# Altium footprint library linear.PCBLIB: 119 footprints (part 3 of 8)
Each footprint in its own frame and in the unit in brackets; x right, y up, seen from the top. Pads: shape width x height; smd on the part's side, far side on the other; paste and mask are expansions set on the pad; w line width, h text height; cw(c..) or ccw(c..) is an arc to the next point about the centre after c.
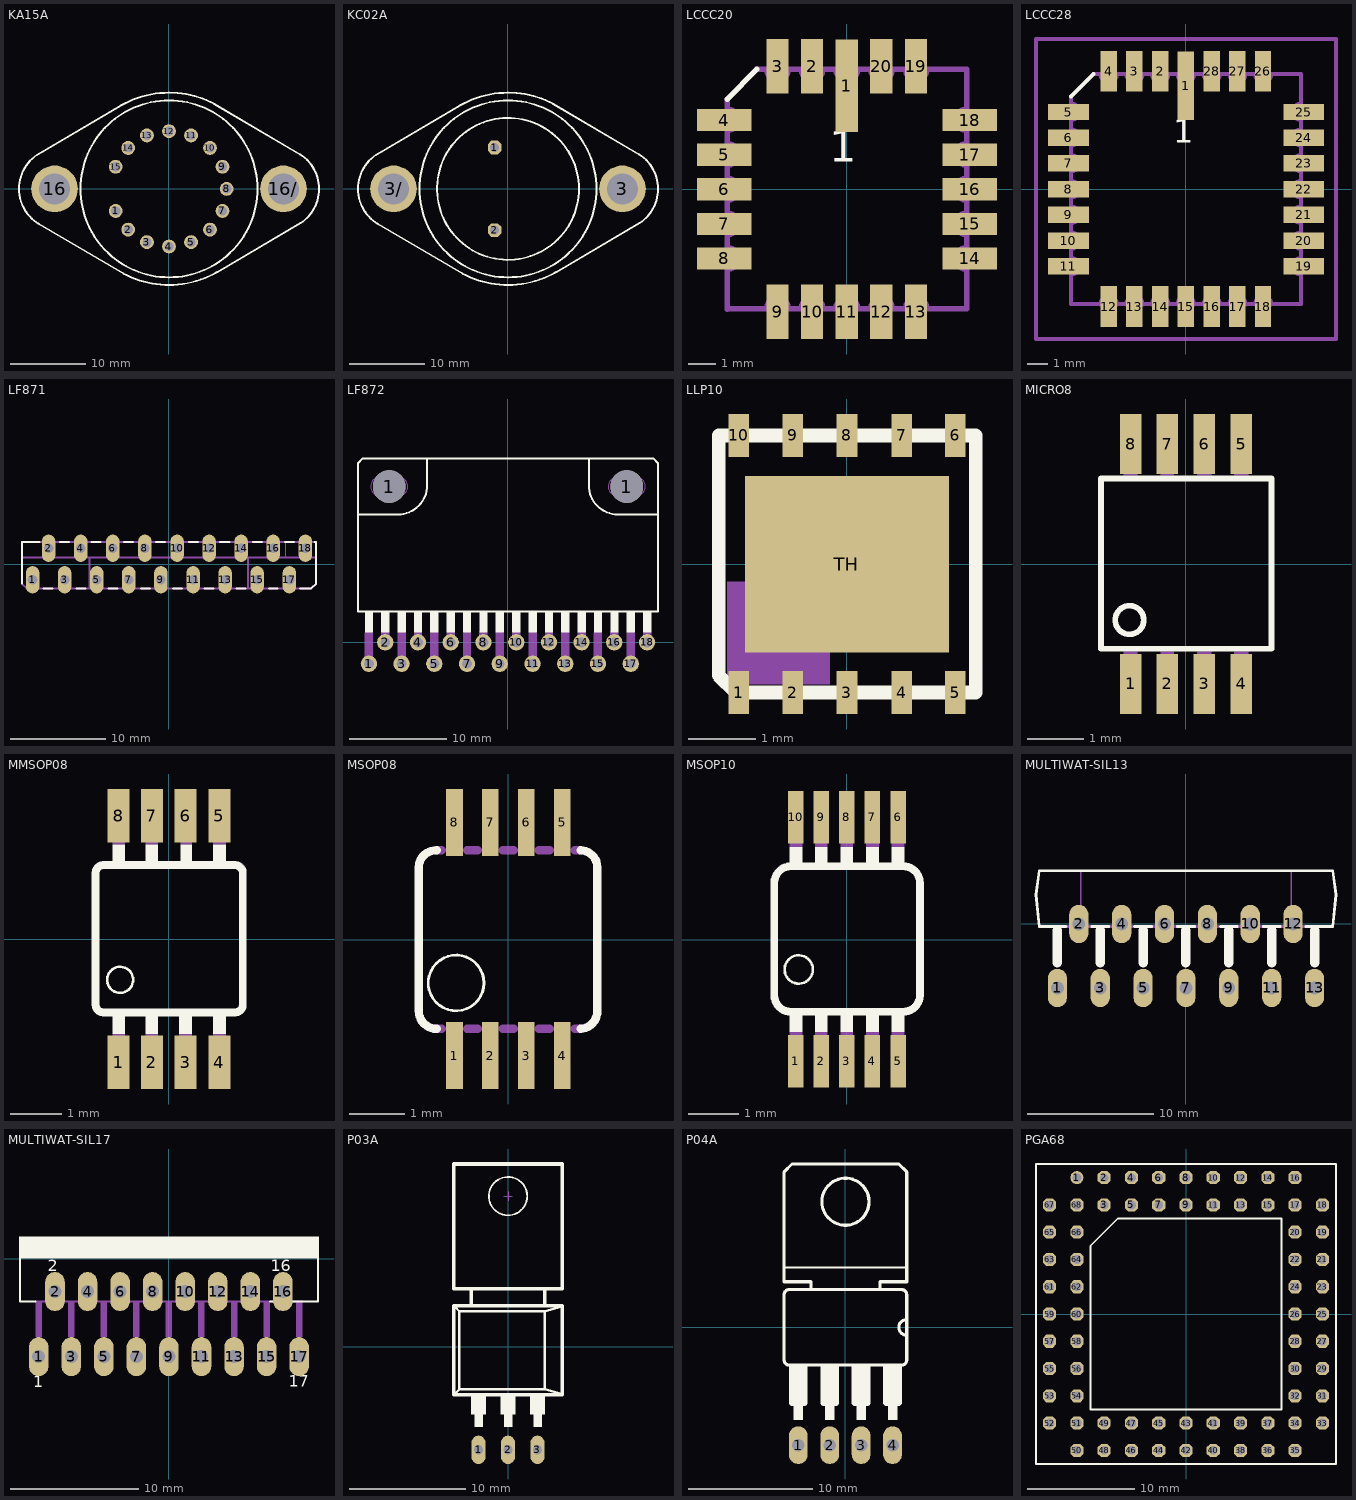
[diagram p2: the footprints below, top view; thin cyan lines are the x and y axes]

## KA15A [mil]
pads (17):
  round 72 hole 48: 1(-277.17,-114.8) 2(-212.13,-212.13) 3(-114.8,-277.17) 4(0,-300) 5(115,-277.17) 6(213,-212.13) 7(278,-114.8) 8(300,0) 9(278,115) 10(213,213) 11(115,278) 12(0,300) 13(-114.8,278) 14(-212.13,213) 15(-277.17,115)
  round 243 hole 162: 16(-595,0) 16/(595,0)
Top Overlay:
  circle w10: c0,0 r460
  lines w10: -680,180 -250,433 ; -679,-181 -234,-442 ; -675.41,-183.35 cw(c-567,0) -780,0 cw(c-566.81,0.11) -672.94,185 ; -250.86,433 cw(c-0.9,0.24) 0,500 cw(c2,-1) 236,442 ; -235.3,-441.18 ccw(c0,0) 0,-500 ccw(c0.07,0.26) 251,-432.52 ; 235,441 684,178 ; 251,-433 684,-178 ; 683,-178.94 ccw(c567.23,-0.42) 780,0 ccw(c567.17,0.45) 683,179
Mechanical 16:
  circle w6: c595,0 r85
  circle w6: c-595,0 r85

## KC02A [mil]
pads (4):
  oct 70.5x70.5 hole 47: 1(-70,215) 2(-70,-215)
  round 243 hole 162: 3(595,0) 3/(-595,0)
Top Overlay:
  circle w10: c0,0 r369
  circle w10: c0,0 r460
  lines w10: -680,180 -250,433 ; -679,-181 -234,-442 ; -675.41,-183.35 cw(c-567,0) -780,0 cw(c-566.81,0.11) -672.94,185 ; -250.86,433 cw(c-0.9,0.24) 0,500 cw(c2,-1) 236,442 ; -235.3,-441.18 ccw(c0,0) 0,-500 ccw(c0.07,0.26) 251,-432.52 ; 235,441 684,178 ; 251,-433 684,-178 ; 683,-178.94 ccw(c567.23,-0.42) 780,0 ccw(c567.17,0.45) 683,179
Mechanical 16:
  circle w10: c595,0 r85
  circle w10: c-595,0 r85

## LCCC20 [mil]
pads (20):
  rect 32x134 smd: 1(0,150)
  rect 32x79 smd: 2(-50,178) 3(-100,178) 9(-100,-177.17) 10(-50,-177.17) 11(0,-177.17) 12(50,-177.17) 13(100,-177.17) 19(100,178) 20(50,178)
  rect 79x32 smd: 4(-177.17,100) 5(-177.17,50) 6(-177.17,0) 7(-177.17,-50) 8(-177.17,-100) 14(178,-100) 15(178,-50) 16(178,0) 17(178,50) 18(178,100)
Top Overlay:
  lines w8: -173.23,130 -129.92,174
  text "1" at -25,25 h77.5
Mechanical 16:
  lines w8: -173.23,-173.62 -173.23,-173.23 ; -173.23,-115.75 -173.23,-173.23 ; -173.23,-84.25 -173.23,-65.75 ; -173.23,-34.25 -173.23,-15.75 ; -173.23,16 -173.23,35 ; -173.23,66 -173.23,85 ; -173.23,116 -173.23,130 ; -173.17,-115.75 ccw(c-173.17,-100) -173.17,-84.25 ; -173.17,-65.75 ccw(c-173.17,-50) -173.17,-34.25 ; -173.17,-15.75 ccw(c-173.17,0.13) -173.17,16 ; -173.17,35 ccw(c-173.17,50.5) -173.17,66 ; -173.17,85 ccw(c-173.17,100.5) -173.17,116 ; -129.92,174 -115.75,174 ccw(c-100,174) -84.25,174 -65.75,174 ccw(c-50,174) -34.25,174 -15.75,174 ccw(c0.13,174) 16,174 35,174 ccw(c50.5,174) 66,174 85,174 ccw(c100.5,174) 116,174 174,174 174,116 ccw(c174,100.5) 174,85 174,66 ccw(c174,50.5) 174,35 174,16 ccw(c174,0.13) 174,-15.75 174,-34.25 ccw(c174,-50) 174,-65.75 174,-84.25 ccw(c174,-100) 174,-115.75 174,-173.23 116,-173.23 ; -115.75,-173.23 -173.23,-173.23 ; -115.75,-173.17 cw(c-100,-173.17) -84.25,-173.17 ; -84.25,-173.23 -65.75,-173.23 ; -65.75,-173.17 cw(c-50,-173.17) -34.25,-173.17 ; -34.25,-173.23 -15.75,-173.23 ; -15.75,-173.17 cw(c0.13,-173.17) 16,-173.17 ; 16,-173.23 35,-173.23 ; 35,-173.17 cw(c50.5,-173.17) 66,-173.17 ; 66,-173.23 85,-173.23 ; 85,-173.17 cw(c100.5,-173.17) 116,-173.17

## LCCC28 [mil]
pads (28):
  rect 32x134 smd: 1(0,201)
  rect 32x79 smd: 2(-50,229) 3(-100,229) 4(-150,229) 12(-150,-228.35) 13(-100,-228.35) 14(-50,-228.35) 15(0,-228.35) 16(50,-228.35) 17(100,-228.35) 18(150,-228.35) 26(150,229) 27(100,229) 28(50,229)
  rect 79x32 smd: 5(-228.35,150) 6(-228.35,100) 7(-228.35,50) 8(-228.35,0) 9(-228.35,-50) 10(-228.35,-100) 11(-228.35,-150) 19(229,-150) 20(229,-100) 21(229,-50) 22(229,0) 23(229,50) 24(229,100) 25(229,150)
Top Overlay:
  lines w8: -223.23,180 -179.92,224
  text "1" at -25,75 h77.5
Mechanical 16:
  lines w8: -223.23,180 -223.23,166 cw(c-223.23,150.5) -223.23,135 -223.23,116 cw(c-223.23,100.5) -223.23,85 -223.23,66 cw(c-223.23,50.5) -223.23,35 -223.23,16 cw(c-223.23,0.12) -223.23,-15.75 -223.23,-34.25 cw(c-223.23,-50) -223.23,-65.75 -223.23,-84.25 cw(c-223.23,-100) -223.23,-115.75 -223.23,-134.25 cw(c-223.23,-150) -223.23,-165.75 -223.23,-223.23 -165.75,-223.23 ; -179.92,224 -165.75,224 ccw(c-150,224) -134.25,224 -115.75,224 ccw(c-100,224) -84.25,224 -65.75,224 ccw(c-50,224) -34.25,224 -15.75,224 ccw(c0.12,224) 16,224 35,224 ccw(c50.5,224) 66,224 85,224 ccw(c100.5,224) 116,224 135,224 ccw(c150.5,224) 166,224 224,224 224,166 ccw(c224,150.5) 224,135 224,116 ccw(c224,100.5) 224,85 224,66 ccw(c224,50.5) 224,35 224,16 ccw(c224,0.12) 224,-15.75 224,-34.25 ccw(c224,-50) 224,-65.75 224,-84.25 ccw(c224,-100) 224,-115.75 224,-134.25 ccw(c224,-150) 224,-165.75 224,-223.23 166,-223.23 ; -165.75,-224.22 cw(c-150,-224.22) -134.25,-224.22 ; -134.25,-223.23 -115.75,-223.23 ; -115.75,-224.22 cw(c-100,-224.22) -84.25,-224.22 ; -84.25,-223.23 -65.75,-223.23 ; -65.75,-224.22 cw(c-50,-224.22) -34.25,-224.22 ; -34.25,-223.23 -15.75,-223.23 ; -15.75,-224.22 cw(c0.12,-224.22) 16,-224.22 ; 16,-223.23 35,-223.23 ; 35,-224.22 cw(c50.5,-224.22) 66,-224.22 ; 66,-223.23 85,-223.23 ; 85,-224.22 cw(c100.5,-224.22) 116,-224.22 ; 116,-223.23 135,-223.23 ; 135,-224.22 cw(c150.5,-224.22) 166,-224.22
Mechanical 27:
  lines w8: -291.46,-291.46 292,-291.46 292,292 -291.46,292 -291.46,-291.46

## LF871 [mil]
pads (18):
  oval 56x112 hole 40: 1(-562.2,-64.96) 2(-496.06,65) 3(-429.92,-64.96) 4(-363.78,65) 5(-297.64,-64.96) 6(-231.5,65) 7(-165.35,-64.96) 8(-99.21,65) 9(-33.07,-64.96) 10(34,65) 11(100,-64.96) 12(166,65) 13(232,-64.96) 14(298,65) 15(364,-64.96) 16(430,65) 17(497,-64.96) 18(563,65)
Top Overlay:
  lines w8: -606.3,-80.71 -606.3,91 -533.46,91 ; -517.72,-100.39 -480.31,-100.39 ; -448.82,91 -411.42,91 ; -381.89,-100.39 -344.49,-100.39 ; -318.9,91 -281.5,91 ; -250,-100.39 -212.6,-100.39 ; -185.04,91 -147.64,91 ; -116.14,-100.39 -78.74,-100.39 ; -53.15,91 -15.75,91 ; 16,-100.39 54,-100.39 ; 83,91 121,91 ; 146,-100.39 184,-100.39 ; 211,91 249,91 ; 278,-100.39 315,-100.39 ; 347,91 384,91 ; 412,-100.39 449,-100.39 ; 479,91 516,91 ; 540,-100.39 587,-100.39 607,-80.71 607,91 601,91
Mechanical 16:
  lines w4: -480.31,30 -480.31,87 ; 481,30 481,87
  lines w8: -604.33,26 -326.77,26 ; -326.77,-96.46 -326.77,26 ; 327,-98.43 327,26 ; 605,26 327,26 ; -326.77,26 327,26 ; -606.3,-80.71 -606.3,91 607,91 607,-80.71 587,-100.39 -586.61,-100.39 -606.3,-80.71

## LF872 [mil]
pads (20):
  round 66 hole 40: 1(-562.2,-86.61) 2(-496.06,0) 3(-429.92,-86.61) 4(-363.78,0) 5(-297.64,-86.61) 6(-231.5,0) 7(-165.35,-86.61) 8(-99.21,0) 9(-33.07,-86.61) 10(34,0) 11(100,-86.61) 12(166,0) 13(232,-86.61) 14(298,0) 15(364,-86.61) 16(430,0) 17(497,-86.61) 18(563,0)
  round 132 hole 132: 1(-480.31,630) 1(481,630)
Top Overlay:
  rectangle: -578.74,40 -545.28,121
  rectangle: -512.6,40 -479.13,121
  rectangle: -446.46,40 -412.99,121
  rectangle: -380.31,40 -346.85,121
  rectangle: -314.17,40 -280.71,121
  rectangle: -248.03,40 -214.57,121
  rectangle: -181.89,40 -148.43,121
  rectangle: -115.75,40 -82.28,121
  rectangle: -49.61,40 -16.14,121
  rectangle: 17,40 50,121
  rectangle: 83,40 117,121
  rectangle: 149,40 183,121
  rectangle: 215,40 249,121
  rectangle: 282,40 315,121
  rectangle: 348,40 381,121
  rectangle: 414,40 447,121
  rectangle: 480,40 513,121
  rectangle: 546,40 580,121
  lines w8: -604.33,517 -444.88,517 ccw(c-444.83,635.06) -326.77,635 -326.77,742 ; 327,740 327,635 ccw(c445,635) 445,517 605,517 ; -606.3,124 -606.3,724 -586.61,744 587,744 607,724 607,124 -606.3,124
Mechanical 1:
  lines w0: -555.12,630 cw(c-515.43,630.32) -515.75,670 -444.88,670 cw(c-445.2,630.32) -405.51,630 cw(c-444.7,630.18) -444.88,591 -515.75,591 cw(c-515.93,630.18) -555.12,630 ; 406,630 cw(c445.5,630.5) 445,670 516,670 cw(c516,630) 556,630 cw(c516.5,630.5) 516,591 445,591 cw(c445,630) 406,630
Mechanical 16:
  lines w34: -562.2,-85.43 -562.2,34 ; -496.06,0 -496.06,34 ; -429.92,-85.43 -429.92,34 ; -363.78,0 -363.78,34 ; -297.64,-85.43 -297.64,34 ; -231.5,0 -231.5,34 ; -165.35,-85.43 -165.35,34 ; -99.21,0 -99.21,34 ; -33.07,-85.43 -33.07,34 ; 34,0 34,34 ; 100,-85.43 100,34 ; 166,0 166,34 ; 232,-85.43 232,34 ; 298,0 298,34 ; 364,-85.43 364,34 ; 430,0 430,34 ; 497,-85.43 497,34 ; 563,0 563,34

## LLP10 [mil]
pads (11):
  rect 12x25 smd: 1(-62.99,-74.8) 2(-31.5,-74.8) 3(0,-74.8) 4(32,-74.8) 5(63,-74.8) 6(63,75) 7(32,75) 8(0,75) 9(-31.5,75) 10(-62.99,75)
  rect 119x103 smd: TH(0,0)
Top Overlay:
  lines w8: -74.8,-64.8 -64.8,-74.8 75,-74.8 75,75 -74.8,75 -74.8,-64.8
Mechanical 16:
  rectangle: -70,-70 -10,-10

## MICRO8 [mil]
pads (8):
  rect 15x42 smd: 1(-38.39,-83.66) 2(-12.8,-83.66) 3(13,-83.66) 4(39,-83.66) 5(39,84) 6(13,84) 7(-12.8,84) 8(-38.39,84)
Top Overlay:
  circle w4: c-39.2,-39 r10
  lines w4: -59.06,-59.06 60,-59.06 60,60 -59.06,60 -59.06,-59.06
Mechanical 16:
  rectangle: -43.21,62 -33.61,100
  rectangle: -17.62,62 -8.02,100
  rectangle: 8,62 18,100
  rectangle: 34,62 44,100
  rectangle: -43.21,-99.41 -33.61,-61.02
  rectangle: -17.62,-99.41 -8.02,-61.02
  rectangle: 8,-99.41 18,-61.02
  rectangle: 34,-99.41 44,-61.02

## MMSOP08 [mil]
pads (8):
  rect 17x41 smd: 1(-38.39,-94.49) 2(-12.8,-94.49) 3(13,-94.49) 4(39,-94.49) 5(39,95) 6(13,95) 7(-12.8,95) 8(-38.39,95)
Top Overlay:
  circle w2: c-37.23,-31.13 r10
  rectangle: -43.21,-72.83 -33.61,-56.13
  rectangle: -17.62,-72.83 -8.02,-56.13
  rectangle: 8,-72.83 18,-56.13
  rectangle: 34,-72.83 44,-56.13
  region: 44,73 34,73 34,57 44,57
  region: 18,73 9,73 9,57 18,57
  region: -7.97,73 -17.57,73 -17.57,57 -7.97,57
  region: -33.56,73 -43.16,73 -43.16,57 -33.56,57
  lines w6: -56.06,-50.16 ccw(c-50.16,-50.2) -50.2,-56.1 51,-56.1 ccw(c51.07,-50.17) 57,-50.24 57,51 ccw(c51,51) 51,57 -50.2,57 ccw(c-50.13,51.07) -56.06,51 -56.06,-50.16
Mechanical 16:
  rectangle: -43.21,-96.46 -33.61,-72.83
  rectangle: -17.62,-96.46 -8.02,-72.83
  rectangle: 8,-96.46 18,-72.83
  rectangle: 34,-96.46 44,-72.83
  region: 44,97 34,97 34,73 44,73
  region: 18,97 9,97 9,73 18,73
  region: -7.97,97 -17.57,97 -17.57,73 -7.97,73
  region: -33.56,97 -43.16,97 -43.16,73 -33.56,73

## MSOP08 [mil]
pads (8):
  rect 12x48 smd: 1(-38.43,-83.19) 2(-12.83,-83.19) 3(13,-83.19) 4(39,-83.19) 5(39,84) 6(13,84) 7(-12.83,84) 8(-38.43,84)
Top Overlay:
  circle w2: c-37.23,-31.13 r20
  lines w6: -51.22,-64.02 cw(c-51.22,-51.22) -64.02,-51.22 -64.02,52 cw(c-51.62,51.6) -51.22,64 ; 52,-64.02 ccw(c51.6,-51.62) 64,-51.22 64,52 ccw(c52,52) 52,64
Mechanical 16:
  rectangle: -43.21,64 -33.61,93
  rectangle: -17.62,64 -8.02,93
  rectangle: 8,64 18,93
  rectangle: 34,64 44,93
  rectangle: -43.21,-92.79 -33.61,-64
  rectangle: -17.62,-92.79 -8.02,-64
  rectangle: 8,-92.79 18,-64
  rectangle: 34,-92.79 44,-64
  lines w6: -52.8,-64.02 -47.4,-64.02 ; -51.22,64 -47.4,64 ; -29.41,-64.02 -21.81,-64.02 ; -29.41,64 -21.81,64 ; -3.82,-64.02 4,-64.02 ; -3.82,64 4,64 ; 22,-64.02 30,-64.02 ; 22,64 30,64 ; 48,-64.02 52,-64.02 ; 48,64 52,64

## MSOP10 [mil]
pads (10):
  rect 12x41 smd: 1(-39.37,-94.49) 2(-19.68,-94.49) 3(0,-94.49) 4(20,-94.49) 5(40,-94.49) 6(40,95) 7(20,95) 8(0,95) 9(-19.68,95) 10(-39.37,95)
Top Overlay:
  circle w2: c-37.23,-23.25 r11
  rectangle: -44.29,-71.85 -34.45,-58.07
  rectangle: -24.61,-71.85 -14.76,-58.07
  rectangle: -4.92,-71.85 5,-58.07
  rectangle: 15,-71.85 25,-58.07
  rectangle: 35,-71.85 45,-58.07
  region: 45,72 35,72 35,59 45,59
  region: 25,72 15,72 15,59 25,59
  region: 5,72 -4.92,72 -4.92,59 5,59
  region: -14.76,72 -24.61,72 -24.61,59 -14.76,59
  region: -34.45,72 -44.29,72 -44.29,59 -34.45,59
  lines w6: -43.35,-56.14 cw(c-43.35,-43.35) -56.14,-43.35 -56.14,44 cw(c-43.24,44.1) -43.35,57 44,57 cw(c44,44) 57,44 57,-43.35 cw(c44.1,-43.24) 44,-56.14 -43.31,-56.1
Top Paste:
  rectangle: -45.28,-112.2 -33.46,-74.8
  rectangle: -25.59,-112.2 -13.78,-74.8
  rectangle: -5.91,-112.2 6,-74.8
  rectangle: 14,-112.2 26,-74.8
  rectangle: 34,-112.2 46,-74.8
  region: 46,113 34,113 34,75 46,75
  region: 26,113 14,113 14,75 26,75
  region: 6,113 -5.91,113 -5.91,75 6,75
  region: -13.78,113 -25.59,113 -25.59,75 -13.78,75
  region: -33.46,113 -45.28,113 -45.28,75 -33.46,75
Top Solder:
  rectangle: -47.24,-116.14 -31.5,-72.83
  rectangle: -27.56,-116.14 -11.81,-72.83
  rectangle: -7.87,-116.14 8,-72.83
  rectangle: 12,-116.14 28,-72.83
  rectangle: 32,-116.14 48,-72.83
  region: 48,117 32,117 32,73 48,73
  region: 28,117 12,117 12,73 28,73
  region: 8,117 -7.87,117 -7.87,73 8,73
  region: -11.81,117 -27.56,117 -27.56,73 -11.81,73
  region: -31.5,117 -47.24,117 -47.24,73 -31.5,73
Mechanical 16:
  rectangle: -44.29,-96.46 -34.45,-71.85
  rectangle: -24.61,-96.46 -14.76,-71.85
  rectangle: -4.92,-96.46 5,-71.85
  rectangle: 15,-96.46 25,-71.85
  rectangle: 35,-96.46 45,-71.85
  region: 45,97 35,97 35,72 45,72
  region: 25,97 15,97 15,72 25,72
  region: 5,97 -4.92,97 -4.92,72 5,72
  region: -14.76,97 -24.61,97 -24.61,72 -14.76,72
  region: -34.45,97 -44.29,97 -44.29,72 -34.45,72

## MULTIWAT-SIL13 [mil]
pads (13):
  oval 60x120 hole 40: 1(-401.57,-200) 2(-334.65,0) 3(-267.72,-200) 4(-200.79,0) 5(-133.86,-200) 6(-66.93,0) 7(0,-200) 8(67,0) 9(134,-200) 10(201,0) 11(268,-200) 12(335,0) 13(402,-200)
Top Overlay:
  lines w8: -374.8,-7.87 -458.66,-7.87 -468.5,91 -458.66,166 459,166 469,91 459,-7.87 375,-7.87 ; -294.49,-7.87 -240.94,-7.87 ; -160.63,-7.87 -107.09,-7.87 ; -26.77,-7.87 27,-7.87 ; 108,-7.87 161,-7.87 ; 241,-7.87 295,-7.87
  lines w30: -401.57,-120.47 -401.57,-20.08 ; -267.72,-120.47 -267.72,-20.08 ; -133.86,-120.47 -133.86,-20.08 ; 0,-120.47 0,-20.08 ; 134,-120.47 134,-20.08 ; 268,-120.47 268,-20.08 ; 402,-120.47 402,-20.08
Mechanical 13:
  lines w4: -328.74,-3.94 -328.74,162 ; 329,-3.94 329,162
Mechanical 16:
  lines w8: -374.8,-7.87 -294.49,-7.87 ; -240.94,-7.87 -160.63,-7.87 ; -107.09,-7.87 -26.77,-7.87 ; 27,-7.87 108,-7.87 ; 161,-7.87 241,-7.87 ; 295,-7.87 375,-7.87

## MULTIWAT-SIL17 [mil]
pads (17):
  oval 60x120 hole 40: 1(-400,-300) 2(-350,-100) 3(-300,-300) 4(-250,-100) 5(-200,-300) 6(-150,-100) 7(-100,-300) 8(-50,-100) 9(0,-300) 10(50,-100) 11(100,-300) 12(150,-100) 13(200,-300) 14(250,-100) 15(300,-300) 16(350,-100) 17(400,-300)
Top Overlay:
  rectangle: -460.63,2 461,69
  lines w6: -457.4,10 -457.4,-130 -410,-130 ; 310,-130 458,-130 458,10
  text "1" at -417.22,-407.02 h62
  text "17" at 368,-404.69 h62
  text "2" at -371.91,-50 h62
  text "16" at 313,-50 h62
Mechanical 16:
  rectangle: -410,-240 -390,-130
  rectangle: -310,-240 -290,-130
  rectangle: -210,-240 -190,-130
  rectangle: -110,-240 -90,-130
  rectangle: -10,-240 10,-130
  rectangle: 90,-240 110,-130
  rectangle: 190,-240 210,-130
  rectangle: 290,-240 310,-130
  rectangle: 390,-240 410,-130
  lines w6: -410,-130 -310,-130 ; 310,-130 -310,-130 ; 410,-130 -310,-130

## P03A [mil]
pads (3):
  oval 48x96 hole 32: 1(-100,-350) 2(0,-350) 3(100,-350)
Top Overlay:
  circle w6: c0,510 r65
  rectangle: -125,-230 -75,-166
  rectangle: -114,-272 -85,-213
  rectangle: -25,-230 25,-166
  rectangle: -14,-272 15,-213
  rectangle: 75,-230 125,-166
  rectangle: 86,-272 115,-213
  lines w8: -180,-160 -165,-145 ; -180,135 -165,120 ; 180,-160 125,-145 ; 180,135 125,120 ; -165,-145 125,-145 ; -165,-145 -165,120 ; -165,120 125,120 ; 125,-145 125,120
  lines w12: -124,141 -124,192 ; 124,141 124,191 ; -184,-164 184,-164 184,139 -184,139 -184,-164 ; -184,196 -184,619 184,619 184,196 -184,196
Mechanical 16:
  lines w2: -15,510 15,510 ; 0,495 0,525

## P04A [mil]
pads (4):
  oval 60x120 hole 40: 1(-150,-375) 2(-50,-375) 3(50,-375) 4(150,-375)
Top Overlay:
  circle w10: c0,400 r75
  rectangle: -180,-240 -120,-123
  rectangle: -80,-240 -20,-123
  rectangle: 20,-240 80,-123
  rectangle: -165,-295 -135,-245
  rectangle: -65,-295 -35,-245
  rectangle: 35,-295 65,-245
  rectangle: 120,-240 180,-123
  rectangle: 135,-295 165,-245
  lines w6: -190,190 190,190
  lines w10: -110,125 -110,145 -195,145 -195,495 -170,520 170,520 195,495 195,145 110,145 110,125 ; 195,-25 195,-105 cw(c180,-105) 180,-120 -180,-120 cw(c-180,-105) -195,-105 -195,105 cw(c-180,105) -180,120 180,120 cw(c180,105) 195,105 195,25 ; 195,-25 195,25 ; 195,-25 cw(c195,0) 195,25
  lines w20: -170,-240 -130,-240 ; -70,-240 -30,-240 ; 30,-240 70,-240 ; 130,-240 170,-240

## PGA68 [mil]
pads (68):
  round 48 hole 32: 1(-400,500)
  oct 48x48 hole 32: 2(-300,500) 3(-300,400) 4(-200,500) 5(-200,400) 6(-100,500) 7(-100,400) 8(0,500) 9(0,400) 10(100,500) 11(100,400) 12(200,500) 13(200,400) 14(300,500) 15(300,400) 16(400,500) 17(400,400) 18(500,400) 19(500,300) 20(400,300) 21(500,200) 22(400,200) 23(500,100) 24(400,100) 25(500,0) 26(400,0) 27(500,-100) 28(400,-100) 29(500,-200) 30(400,-200) 31(500,-300) 32(400,-300) 33(500,-400) 34(400,-400) 35(400,-500) 36(300,-500) 37(300,-400) 38(200,-500) 39(200,-400) 40(100,-500) 41(100,-400) 42(0,-500) 43(0,-400) 44(-100,-500) 45(-100,-400) 46(-200,-500) 47(-200,-400) 48(-300,-500) 49(-300,-400) 50(-400,-500) 51(-400,-400) 52(-500,-400) 53(-500,-300) 54(-400,-300) 55(-500,-200) 56(-400,-200) 57(-500,-100) 58(-400,-100) 59(-500,0) 60(-400,0) 61(-500,100) 62(-400,100) 63(-500,200) 64(-400,200) 65(-500,300) 66(-400,300) 67(-500,400) 68(-400,400)
Top Overlay:
  lines w6: -550,-550 550,-550 550,550 -550,550 -550,-550 ; -350,-350 350,-350 350,350 -250,350 -350,250 -350,-350